# Altium schematic symbol library smdUtilities.SchLib: 28 symbols
Pins are listed as number, name and electrical type; pins without a type are passive.

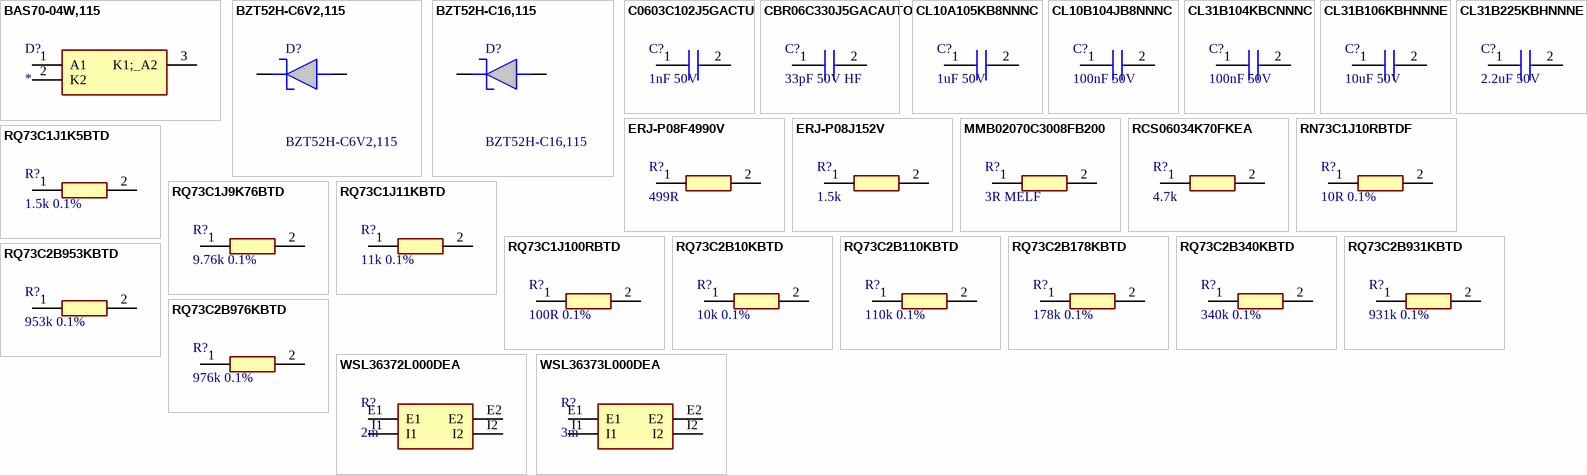
[diagram p0: symbols BAS70-04W,115 to WSL36373L000DEA]

## BAS70-04W,115
designator D?
DIODE ARR SCHOTT SERIES 70V 70MA SOT323; Manufacturer_Name: Nexperia; Manufacturer_Part_Number: BAS70-04W,115; Description: Nexperia BAS70-04W,115 Dual SMT Schottky Diode; Datasheet Link: https://assets.nexperia.com/documents/data-sheet/BAS70-04W.pdf; Height: 1.1mm; Mouser Part Number: 771-BAS70-04W-T/R; Mouser Price/Stock: https://www.mouser.co.uk/ProductDetail/Nexperia/BAS70-04W115?qs=me8TqzrmIYVfBozCNyL8nw%3D%3D; Arrow Part Number: BAS70-04W,115; Arrow Price/Stock: https://www.arrow.com/en/products/bas70-04w115/nexperia?utm_currency=USD&region=nac
footprint SOT65P210X110-3N
pins: 1 A1, 2 K2, 3 K1;_A2

## BZT52H-C6V2,115
designator D?
6V2 Zener SOD-123F; Manufacturer_Name: Nexperia; Geometry.Height: 1.2mm; Manufacturer_Part_Number: BZT52H-C6V2,115; Arrow Part Number: BZT52H-C6V2,115; Arrow Price/Stock: https://www.arrow.com/en/products/bzt52h-c8v2115/nexperia?region=nac; Datasheet Link: https://assets.nexperia.com/documents/data-sheet/BZT52H_SER.pdf
footprint SOD3516X120N
pins: 1 K, 2 A

## BZT52H-C16,115
designator D?
16V Zener SOD-123F; Manufacturer_Name: Nexperia; Geometry.Height: 1.2mm; Manufacturer_Part_Number: BZT52H-C16,115; Arrow Part Number: BZT52H-C16,115; Arrow Price/Stock: https://www.arrow.com/en/products/bzt52h-c8v2115/nexperia?region=nac; Datasheet Link: https://assets.nexperia.com/documents/data-sheet/BZT52H_SER.pdf
footprint SOD3516X120N
pins: 1 K, 2 A

## C0603C102J5GACTU
designator C?, comment 1nF 50V
CAP CER 1000PF 50V C0G 0603 /; Manufacturer_Name: KEMET; Manufacturer_Part_Number: C0603C102J5GACTU; Description: Multilayer Ceramic Capacitors MLCC - SMD/SMT 50volts 1000pF 5% C0G; Datasheet Link: https://content.kemet.com/datasheets/KEM_C1003_C0G_SMD.pdf; Height: 0.87mm; Mouser Part Number: 80-C0603C102J5GAC; Mouser Price/Stock: https://www.mouser.co.uk/ProductDetail/KEMET/C0603C102J5GAC?qs=Zjfhvh7dXTOsQ2RXjJ2KwA%3D%3D; Arrow Part Number: C0603C102J5GAC; Arrow Price/Stock: https://www.arrow.com/en/products/c0603c102j5gac/kemet-corporation
footprint CAPC1608X87N
pins: 1, 2

## CBR06C330J5GACAUTO
designator C?, comment 33pF 50V HF
CAP CER HF 33PF 50V C0G 0603; Manufacturer_Name: KEMET; Manufacturer_Part_Number: CBR06C330J5GACAUTO; Description: SMD; Datasheet Link: https://search.kemet.com/download/datasheet/CBR06C330J5GACAUTO; Mouser Part Number: 80-CBR06C330J5GAUTO; Mouser Price/Stock: https://www.mouser.co.uk/ProductDetail/KEMET/CBR06C330J5GACAUTO?qs=By6Nw2ByBD34mt%252B59rpSTg%3D%3D; Arrow Part Number: CBR06C330J5GACAUTO; Arrow Price/Stock: https://www.arrow.com/en/products/cbr06c330j5gacauto/kemet-corporation?utm_currency=USD&region=nac
footprint CBR06
pins: 1, 2

## CL10A105KB8NNNC
designator C?, comment 1uF 50V
CAP CER 1UF 50V X5R 0603; Manufacturer_Name: SAMSUNG; Manufacturer_Part_Number: CL10A105KB8NNNC; Description: CAP; Datasheet Link: https://datasheet.datasheetarchive.com/originals/distributors/Datasheets-DGA10/2411562.pdf; Height: 0.9mm; Mouser Part Number: 187-CL10A105KB8NNNC; Mouser Price/Stock: https://www.mouser.co.uk/ProductDetail/Samsung-Electro-Mechanics/CL10A105KB8NNNC?qs=ktYoCbbtCSJz4pFCLWXd5g%3D%3D; Arrow Part Number: CL10A105KB8NNNC; Arrow Price/Stock: https://www.arrow.com/en/products/cl10a105kb8nnnc/samsung-electro-mechanics?utm_currency=USD&region=nac
footprint CAPC1608X90N
pins: 1, 2

## CL10B104JB8NNNC
designator C?, comment 100nF 50V
CAP CER 0.1UF 50V X7R 0603; Manufacturer_Name: SAMSUNG; Manufacturer_Part_Number: CL10B104JB8NNNC; Datasheet Link: https://datasheet.datasheetarchive.com/originals/distributors/Datasheets_SAMA/dd149ce8a6679b37799cedb31427d43d.pdf; Height: 0.9mm; Mouser Part Number: 187-CL10B104JB8NNNC; Mouser Price/Stock: https://www.mouser.co.uk/ProductDetail/Samsung-Electro-Mechanics/CL10B104JB8NNNC?qs=349EhDEZ59oLEw5wc1qvGw%3D%3D; Arrow Part Number: CL10B104JB8NNNC; Arrow Price/Stock: https://www.arrow.com/en/products/cl10b104jb8nnnc/samsung-electro-mechanics?utm_currency=USD&region=europe
footprint CAPC1608X90N
pins: 1, 2

## CL31B104KBCNNNC
designator C?, comment 100nF 50V
CAP CER 0.1UF 50V X7R 1206; Manufacturer_Name: SAMSUNG; Manufacturer_Part_Number: CL31B104KBCNNNC; Description: Samsung Electro-Mechanics 1206 CL 100nF Ceramic Multilayer Capacitor; Datasheet Link: https://datasheet.datasheetarchive.com/originals/distributors/Datasheets_SAMA/0fdb6a11e020a7299f4d0713dd2bd7ee.pdf; Height: 1mm; Mouser Part Number: 187-CL31B104KBCNNNC; Mouser Price/Stock: https://www.mouser.co.uk/ProductDetail/Samsung-Electro-Mechanics/CL31B104KBCNNNC?qs=349EhDEZ59oHABbyGq1iKA%3D%3D; Arrow Part Number: CL31B104KBCNNNC; Arrow Price/Stock: https://www.arrow.com/en/products/cl31b104kbcnnnc/samsung-electro-mechanics?utm_currency=USD&region=europe
footprint CAPC3216X100N
pins: 1, 2

## CL31B106KBHNNNE
designator C?, comment 10uF 50V
CAP CER 10UF 50V X7R 1206; Manufacturer_Name: SAMSUNG; Manufacturer_Part_Number: CL31B106KBHNNNE; Datasheet Link: https://datasheet.datasheetarchive.com/originals/distributors/DKDS-19/375194.pdf; Height: 1.8mm; Mouser Part Number: 187-CL31B106KBHNNNE; Mouser Price/Stock: https://www.mouser.co.uk/ProductDetail/Samsung-Electro-Mechanics/CL31B106KBHNNNE?qs=T0XSgvH75d4ZN8WrMi8xmQ%3D%3D; Arrow Part Number: CL31B106KBHNNNE; Arrow Price/Stock: https://www.arrow.com/en/products/cl31b106kbhnnne/samsung-electro-mechanics?utm_currency=USD&region=europe
footprint CAPC3216X180N
pins: 1, 2

## CL31B225KBHNNNE
designator C?, comment 2.2uF 50V
CAP CER 2.2UF 50V X7R 1206; Manufacturer_Name: SAMSUNG; Manufacturer_Part_Number: CL31B225KBHNNNE; Description: Cap Ceramic 2.2uF 50V X7R 10% Pad SMD 1206 125C T/R; Datasheet Link: https://www.arrow.com/en/products/cl31b225kbhnnne/samsung-electro-mechanics; Height: 1.8mm; Mouser Part Number: 187-CL31B225KBHNNNE; Mouser Price/Stock: https://www.mouser.co.uk/ProductDetail/Samsung-Electro-Mechanics/CL31B225KBHNNNE?qs=349EhDEZ59oNolj3jR402w%3D%3D; Arrow Part Number: CL31B225KBHNNNE; Arrow Price/Stock: https://www.arrow.com/en/products/cl31b225kbhnnne/samsung-electro-mechanics?region=nac
footprint CAPC3216X180N
pins: 1, 2

## ERJ-P08F4990V
designator R?, comment 499R
RES 499 OHM 2/3W 1206; Manufacturer_Name: Panasonic; Manufacturer_Part_Number: ERJ-P08F4990V; Datasheet Link: http://industrial.panasonic.com/cdbs/www-data/pdf/RDO0000/AOA0000C331.pdf; Height: 0.7mm; Mouser Part Number: 667-ERJ-P08F4990V; Mouser Price/Stock: https://www.mouser.co.uk/ProductDetail/Panasonic/ERJ-P08F4990V?qs=iIVTEDlrHA1isfiYlIU3qA%3D%3D; Arrow Part Number: ERJ-P08F4990V; Arrow Price/Stock: https://www.arrow.com/en/products/erj-p08f4990v/panasonic?utm_currency=USD&region=nac
footprint ERJP08_(1206)
pins: 1, 2

## ERJ-P08J152V
designator R?, comment 1.5k
RES 1.5 KOHM 2/3W 1206; Manufacturer_Name: Panasonic; Manufacturer_Part_Number: ERJ-P08J152V; Datasheet Link: http://industrial.panasonic.com/cdbs/www-data/pdf/RDO0000/AOA0000C331.pdf; Height: 0.7mm; Mouser Part Number: 667-ERJ-P08J152V; Mouser Price/Stock: https://www.mouser.co.uk/ProductDetail/Panasonic/ERJ-P08J152V?qs=1VWA5LkbEaq2zTNkpqKKKA%3D%3D; Arrow Part Number: ERJ-P08J152V; Arrow Price/Stock: https://www.arrow.com/en/products/erj-p08j152v/panasonic?utm_currency=USD&region=europe
footprint ERJP08_(1206)
pins: 1, 2

## MMB02070C3008FB200
designator R?, comment 3R MELF
RES 3 OHM MELF 1W; Manufacturer_Name: Vishay; Manufacturer_Part_Number: MMB02070C3008FB200; Datasheet Link: https://www.vishay.com/docs/28713/melfprof.pdf; Height: 2.2mm; Mouser Part Number: 594-MMB02070C3008FB2; Mouser Price/Stock: https://www.mouser.co.uk/ProductDetail/Vishay-Beyschlag/MMB02070C3008FB200?qs=YmMt7wOBEV5WUlHhJ27BBg%3D%3D; Arrow Part Number: MMB02070C3008FB200; Arrow Price/Stock: https://www.arrow.com/en/products/mmb02070c3008fb200/vishay?utm_currency=USD&region=nac
footprint MMB02070C3008FB200
pins: 1, 2

## RCS06034K70FKEA
designator R?, comment 4.7k
RES 4.7K OHM 1% 1/4W 0603; Manufacturer_Name: Vishay; Manufacturer_Part_Number: RCS06034K70FKEA; Description: Thick Film Resistors - SMD 0.25watt 4.7Kohms 1% 100ppm; Datasheet Link: https://www.vishay.com/docs/20065/rcse3.pdf; Mouser Part Number: 71-RCS06034K70FKEA; Mouser Price/Stock: https://www.mouser.co.uk/ProductDetail/Vishay-Dale/RCS06034K70FKEA?qs=NKmfXavxMaxcaMGLC8ehbA%3D%3D; Arrow Part Number: RCS06034K70FKEA; Arrow Price/Stock: https://www.arrow.com/en/products/rcs06034k70fkea/vishay?utm_currency=USD&region=nac
footprint RCS0603_E3
pins: 1, 2

## RN73C1J10RBTDF
designator R?, comment 10R 0.1%
RES 10 OHM 0.1% 1/16W 0603; Manufacturer_Name: TE Connectivity; Manufacturer_Part_Number: RN73C1J10RBTDF; Description: Configuration Features: Number of Resistors 1 | Dimensions: Product Width .031 INCH | Product Length .061 INCH | Product Width .8 MM | Product Height .018 INCH | Product Length 1.55 MM | Product Height .45 MM | Electrical Characteristics: Resistance Class 1k  1M | Passive Component Tolerance .1 PCT | Resistance Value 5.9K OHM | Operating Voltage 50 V | Power Rating .063 WATT | Packaging Features: Packaging Method Taped & Reeled | Product Type Features: Resistor Type Precision Resistor | Element Type; Datasheet Link: https://www.te.com/commerce/DocumentDelivery/DDEController?Action=srchrtrv&DocNm=8-1773459-4_ELEVATOR_ESCALATOR_SOLUTIONS&DocType=Data%20Sheet&DocLang=English&PartCntxt=8-1879133-0&DocFormat=pdf; Height: 0.55mm; Mouser Part Number: 279-RN73C1J10RBTDF; Mouser Price/Stock: https://www.mouser.com.tr/ProductDetail/TE-Connectivity-Holsworthy/RN73C1J10RBTDF?qs=iJVBkmKXgrnCb4P1y6o3xw%3D%3D; Arrow Part Number: RN73C1J10RBTDF; Arrow Price/Stock: https://www.arrow.com/en/products/rn73c1j10rbtdf/te-connectivity?q=RN73C1J10RBTDF
footprint RESC1608X55N
pins: 1, 2

## RQ73C1J1K5BTD
designator R?, comment 1.5k 0.1%
RES 1.5 KOHM 0.1% 0.15W 0603; Manufacturer_Name: TE Connectivity; Manufacturer_Part_Number: RQ73C1J1K5BTD; Description: Configuration Features: Number of Resistors 1 | Dimensions: Product Length 1.55 MM | Product Width .8 MM | Product Length .061 INCH | Product Height .018 INCH | Product Width .031 INCH | Product Height .45 MM | Electrical Characteristics: Power Rating .15 WATT | Resistance Value 105K OHM | Operating Voltage 75 V | Passive Component Tolerance .1 PCT | Resistance Class 1k  1M | Packaging Features: Packaging Method Taped & Reeled | Product Type Features: Element Type Thin Film | Resistor Type Precision; Datasheet Link: https://www.te.com/usa-en/product-5-2176370-3.datasheet.pdf; Height: 0.55mm; Mouser Part Number: 279-RQ73C1J1K5BTD; Mouser Price/Stock: https://www.mouser.co.uk/ProductDetail/TE-Connectivity-Holsworthy/RQ73C1J105KBTDF?qs=gZXFycFWdAObvOWrG7trrA%3D%3D; Arrow Part Number: RQ73C1J1K5BTD; Arrow Price/Stock: https://www.arrow.com/en/products/rq73c1j1k5btd/te-connectivity?q=RQ73C1J1K5BTD
footprint RESC1608X55N
pins: 1, 2

## RQ73C1J9K76BTD
designator R?, comment 9.76k 0.1%
RES 9.76 KOHM 0.1% 0.15W 0603; Manufacturer_Name: TE Connectivity; Manufacturer_Part_Number: RQ73C1J9K76BTD; Description: Configuration Features: Number of Resistors 1 | Dimensions: Product Length 1.55 MM | Product Width .8 MM | Product Length .061 INCH | Product Height .018 INCH | Product Width .031 INCH | Product Height .45 MM | Electrical Characteristics: Power Rating .15 WATT | Resistance Value 105K OHM | Operating Voltage 75 V | Passive Component Tolerance .1 PCT | Resistance Class 1k  1M | Packaging Features: Packaging Method Taped & Reeled | Product Type Features: Element Type Thin Film | Resistor Type Precision; Datasheet Link: https://www.te.com/usa-en/product-3-2176371-2.datasheet.pdf; Height: 0.55mm; Mouser Part Number: 279-RQ73C1J9K76BTD; Mouser Price/Stock: https://www.mouser.com.tr/ProductDetail/TE-Connectivity-Holsworthy/RQ73C1J9K76BTD?qs=gZXFycFWdAN%252Bb7SE6PAquw%3D%3D; Arrow Part Number: RQ73C1J9K76BTD; Arrow Price/Stock: https://www.arrow.com/en/products/rq73c1j9k76btd/te-connectivity
footprint RESC1608X55N
pins: 1, 2

## RQ73C1J11KBTD
designator R?, comment 11k 0.1%
RES 11 KOHM 0.1% 0.15W 0603; Manufacturer_Name: TE Connectivity; Manufacturer_Part_Number: RQ73C1J11KBTD; Description: Configuration Features: Number of Resistors 1 | Dimensions: Product Length 1.55 MM | Product Width .8 MM | Product Length .061 INCH | Product Height .018 INCH | Product Width .031 INCH | Product Height .45 MM | Electrical Characteristics: Power Rating .15 WATT | Resistance Value 105K OHM | Operating Voltage 75 V | Passive Component Tolerance .1 PCT | Resistance Class 1k  1M | Packaging Features: Packaging Method Taped & Reeled | Product Type Features: Element Type Thin Film | Resistor Type Precision; Datasheet Link: https://www.te.com/usa-en/product-3-2176371-7.datasheet.pdf; Height: 0.55mm; Mouser Part Number: 279-RQ73C1J11KBTD; Mouser Price/Stock: https://www.mouser.com.tr/ProductDetail/TE-Connectivity-Holsworthy/RQ73C1J11KBTD?qs=gZXFycFWdAN4lIqXU3eCqw%3D%3D
footprint RESC1608X55N
pins: 1, 2

## RQ73C1J100RBTD
designator R?, comment 100R 0.1%
RES 100 OHM 0.1% 0.15W 0603; Manufacturer_Name: TE Connectivity; Manufacturer_Part_Number: RQ73C1J100RBTD; Description: Configuration Features: Number of Resistors 1 | Dimensions: Product Length 1.55 MM | Product Width .8 MM | Product Length .061 INCH | Product Height .018 INCH | Product Width .031 INCH | Product Height .45 MM | Electrical Characteristics: Power Rating .15 WATT | Resistance Value 105K OHM | Operating Voltage 75 V | Passive Component Tolerance .1 PCT | Resistance Class 1k  1M | Packaging Features: Packaging Method Taped & Reeled | Product Type Features: Element Type Thin Film | Resistor Type Precision; Datasheet Link: https://www.te.com/usa-en/product-3-2176369-9.datasheet.pdf; Height: 0.55mm; Mouser Part Number: 279-RQ73C1J100RBTD; Mouser Price/Stock: https://www.mouser.co.uk/ProductDetail/TE-Connectivity-Holsworthy/RQ73C1J105KBTDF?qs=gZXFycFWdAObvOWrG7trrA%3D%3D
footprint RESC1608X55N
pins: 1, 2

## RQ73C2B10KBTD
designator R?, comment 10k 0.1%
RES 10 KOHM 0.1% 0.4W 1206; Manufacturer_Name: TE Connectivity; Manufacturer_Part_Number: RQ73C2B10KBTD; Description: Configuration Features: Number of Resistors 1 | Dimensions: Product Height .55 MM | Product Width .061 INCH | Product Height .022 INCH | Product Length 3.05 MM | Product Length .12 INCH | Product Width 1.55 MM | Electrical Characteristics: Operating Voltage 200 V | Resistance Value 76.8K OHM | Power Rating .4 WATT | Passive Component Tolerance .1 PCT | Resistance Class 1k  1M | Packaging Features: Packaging Method Taped & Reeled | Product Type Features: Element Type Thin Film | Resistor Type Precisio; Datasheet Link: https://www.te.com/usa-en/product-9-2176390-1.datasheet.pdf; Height: 0.65mm; Mouser Part Number: 279-RQ73C2B10KBTD; Mouser Price/Stock: https://www.mouser.com.tr/ProductDetail/TE-Connectivity-Holsworthy/RQ73C2B10KBTD?qs=gZXFycFWdANWMnGuXdGmXg%3D%3D; Arrow Part Number: RQ73C2B10KBTD; Arrow Price/Stock: https://www.arrow.com/en/products/rq73c2b10kbtd/te-connectivity
footprint RESC3016X65N
pins: 1, 2

## RQ73C2B110KBTD
designator R?, comment 110k 0.1%
RES 110 KOHM 0.1% 0.4W 1206; Manufacturer_Name: TE Connectivity; Manufacturer_Part_Number: RQ73C2B110KBTD; Description: Configuration Features: Number of Resistors 1 | Dimensions: Product Height .55 MM | Product Width .061 INCH | Product Height .022 INCH | Product Length 3.05 MM | Product Length .12 INCH | Product Width 1.55 MM | Electrical Characteristics: Operating Voltage 200 V | Resistance Value 76.8K OHM | Power Rating .4 WATT | Passive Component Tolerance .1 PCT | Resistance Class 1k  1M | Packaging Features: Packaging Method Taped & Reeled | Product Type Features: Element Type Thin Film | Resistor Type Precisio; Datasheet Link: https://www.te.com/usa-en/product-9-2176391-2.datasheet.pdf; Height: 0.65mm; Mouser Part Number: 279-RQ73C2B110KBTD; Mouser Price/Stock: https://www.mouser.com.tr/ProductDetail/TE-Connectivity-Holsworthy/RQ73C2B110KBTD?qs=gZXFycFWdAPo3ZyBERyi4A%3D%3D; Arrow Part Number: RQ73C2B110KBTD; Arrow Price/Stock: https://www.arrow.com/en/products/rq73c2b110kbtd/te-connectivity?q=RQ73C2B110KBTD
footprint RESC3016X65N
pins: 1, 2

## RQ73C2B178KBTD
designator R?, comment 178k 0.1%
RES 178 KOHM 0.1% 0.4W 1206; Manufacturer_Name: TE Connectivity; Manufacturer_Part_Number: RQ73C2B178KBTD; Description: Configuration Features: Number of Resistors 1 | Dimensions: Product Height .55 MM | Product Width .061 INCH | Product Height .022 INCH | Product Length 3.05 MM | Product Length .12 INCH | Product Width 1.55 MM | Electrical Characteristics: Operating Voltage 200 V | Resistance Value 76.8K OHM | Power Rating .4 WATT | Passive Component Tolerance .1 PCT | Resistance Class 1k  1M | Packaging Features: Packaging Method Taped & Reeled | Product Type Features: Element Type Thin Film | Resistor Type Precisio; Datasheet Link: https://www.te.com/usa-en/product-1-2176392-3.datasheet.pdf; Height: 0.65mm; Mouser Part Number: 279-RQ73C2B178KBTD; Mouser Price/Stock: https://www.mouser.com.tr/ProductDetail/TE-Connectivity-Holsworthy/RQ73C2B178KBTD?qs=gZXFycFWdANsRYhaTIYFXg%3D%3D; Arrow Part Number: RQ73C2B178KBTD; Arrow Price/Stock: https://www.arrow.com/en/products/rq73c2b178kbtd/te-connectivity?q=RQ73C2B178KBTD
footprint RESC3016X65N
pins: 1, 2

## RQ73C2B340KBTD
designator R?, comment 340k 0.1%
RES 340 KOHM 0.1% 0.4W 1206; Manufacturer_Name: TE Connectivity; Manufacturer_Part_Number: RQ73C2B340KBTD; Description: Configuration Features: Number of Resistors 1 | Dimensions: Product Height .55 MM | Product Width .061 INCH | Product Height .022 INCH | Product Length 3.05 MM | Product Length .12 INCH | Product Width 1.55 MM | Electrical Characteristics: Operating Voltage 200 V | Resistance Value 76.8K OHM | Power Rating .4 WATT | Passive Component Tolerance .1 PCT | Resistance Class 1k  1M | Packaging Features: Packaging Method Taped & Reeled | Product Type Features: Element Type Thin Film | Resistor Type Precisio; Datasheet Link: https://www.te.com/usa-en/product-4-2176392-0.datasheet.pdf; Height: 0.65mm; Mouser Part Number: 279-RQ73C2B340KBTD; Mouser Price/Stock: https://www.mouser.com.tr/ProductDetail/TE-Connectivity-Holsworthy/RQ73C2B340KBTD?qs=gZXFycFWdAPzxpGJ8YKiWg%3D%3D; Arrow Part Number: RQ73C2B340KBTD; Arrow Price/Stock: https://www.arrow.com/en/products/rq73c2b340kbtd/te-connectivity?q=RQ73C2B340KBTD
footprint RESC3016X65N
pins: 1, 2

## RQ73C2B931KBTD
designator R?, comment 931k 0.1%
RES 931 KOHM 0.1% 0.4W 1206; Manufacturer_Name: TE Connectivity; Manufacturer_Part_Number: RQ73C2B931KBTD; Description: Configuration Features: Number of Resistors 1 | Dimensions: Product Height .55 MM | Product Width .061 INCH | Product Height .022 INCH | Product Length 3.05 MM | Product Length .12 INCH | Product Width 1.55 MM | Electrical Characteristics: Operating Voltage 200 V | Resistance Value 76.8K OHM | Power Rating .4 WATT | Passive Component Tolerance .1 PCT | Resistance Class 1k  1M | Packaging Features: Packaging Method Taped & Reeled | Product Type Features: Element Type Thin Film | Resistor Type Precisio; Datasheet Link: https://www.te.com/usa-en/product-8-2176392-2.datasheet.pdf; Height: 0.65mm; Mouser Part Number: 279-RQ73C2B931KBTD; Mouser Price/Stock: https://www.mouser.com.tr/ProductDetail/TE-Connectivity-Holsworthy/RQ73C2B931KBTD?qs=gZXFycFWdAO9E%2FMLcZM6Gg%3D%3D
footprint RESC3016X65N
pins: 1, 2

## RQ73C2B953KBTD
designator R?, comment 953k 0.1%
RES 953 KOHM 0.1% 0.4W 1206; Manufacturer_Name: TE Connectivity; Manufacturer_Part_Number: RQ73C2B953KBTD; Description: Configuration Features: Number of Resistors 1 | Dimensions: Product Height .55 MM | Product Width .061 INCH | Product Height .022 INCH | Product Length 3.05 MM | Product Length .12 INCH | Product Width 1.55 MM | Electrical Characteristics: Operating Voltage 200 V | Resistance Value 76.8K OHM | Power Rating .4 WATT | Passive Component Tolerance .1 PCT | Resistance Class 1k  1M | Packaging Features: Packaging Method Taped & Reeled | Product Type Features: Element Type Thin Film | Resistor Type Precisio; Datasheet Link: https://www.te.com/usa-en/product-8-2176392-3.datasheet.pdf; Height: 0.65mm; Mouser Part Number: 279-RQ73C2B953KBTD; Mouser Price/Stock: https://www.mouser.com.tr/ProductDetail/TE-Connectivity-Holsworthy/RQ73C2B953KBTD?qs=gZXFycFWdAOYB9tYIHl3Eg%3D%3D
footprint RESC3016X65N
pins: 1, 2

## RQ73C2B976KBTD
designator R?, comment 976k 0.1%
RES 976 KOHM 0.1% 0.4W 1206; Manufacturer_Name: TE Connectivity; Manufacturer_Part_Number: RQ73C2B976KBTD; Description: Configuration Features: Number of Resistors 1 | Dimensions: Product Height .55 MM | Product Width .061 INCH | Product Height .022 INCH | Product Length 3.05 MM | Product Length .12 INCH | Product Width 1.55 MM | Electrical Characteristics: Operating Voltage 200 V | Resistance Value 76.8K OHM | Power Rating .4 WATT | Passive Component Tolerance .1 PCT | Resistance Class 1k  1M | Packaging Features: Packaging Method Taped & Reeled | Product Type Features: Element Type Thin Film | Resistor Type Precisio; Datasheet Link: https://www.te.com/usa-en/product-8-2176392-4.datasheet.pdf; Height: 0.65mm; Mouser Part Number: 279-RQ73C2B976KBTD; Mouser Price/Stock: https://www.mouser.com.tr/ProductDetail/TE-Connectivity-Holsworthy/RQ73C2B976KBTD?qs=gZXFycFWdAMmC0h%252BsoExcg%3D%3D; Arrow Part Number: RQ73C2B976KBTD; Arrow Price/Stock: https://www.arrow.com/en/products/rq73c2b976kbtd/te-connectivity?q=RQ73C2B976KBTD
footprint RESC3016X65N
pins: 1, 2

## WSL36372L000DEA
designator R?, comment 2m
RES 2 mOHM Shunt 0.5% 3W 3637; Manufacturer_Name: Vishay; Manufacturer_Part_Number: WSL36372L000DEA; Description: Res Metal Strip 3637 0.002 Ohm 0.5% 3W +/-75ppm/C Molded SMD Automotive T/R; Datasheet Link: https://www.vishay.com/docs/30099/wsl3637.pdf; Height: 0.889mm; Mouser Part Number: 71-WSL36372L000DEA; Mouser Price/Stock: https://www.mouser.co.uk/ProductDetail/Vishay-Dale/WSL36372L000DEA?qs=d9nEWKVlhwvlxvlIm2jIgw%3D%3D; Arrow Part Number: WSL36372L000DEA; Arrow Price/Stock: https://www.arrow.com/en/products/wsl36372l000dea/vishay?utm_currency=USD&region=europe
footprint WSL36372L000DEA
pins: E1, E2, I1, I2

## WSL36373L000DEA
designator R?, comment 3m
RES 3 mOHM Shunt 0.5% 3W 3637; Manufacturer_Name: Vishay; Manufacturer_Part_Number: WSL36373L000DEA; Description: 3 mOhms +/-0.5% 3W Chip Resistor Nonstandard Anti-Sulfur; Datasheet Link: https://www.vishay.com/doc?30099; Height: 0.889mm; Mouser Part Number: 71-WSL36373L000DEA; Mouser Price/Stock: https://www.mouser.co.uk/ProductDetail/Vishay-Dale/WSL36373L000DEA?qs=eFWhpKjIuGjyH%2FtX8Uuaqw%3D%3D; Arrow Part Number: WSL36373L000DEA; Arrow Price/Stock: https://www.arrow.com/en/products/wsl36373l000dea/vishay?utm_currency=USD&region=nac
footprint WSL36373L000DEA
pins: E1, E2, I1, I2